# Altium footprint library Bytetd_Modules.PcbLib: 1 footprints
Each footprint in its own frame and in the unit in brackets; x right, y up, seen from the top. Pads: shape width x height; smd on the part's side, far side on the other; paste and mask are expansions set on the pad; w line width, h text height; cw(c..) or ccw(c..) is an arc to the next point about the centre after c.
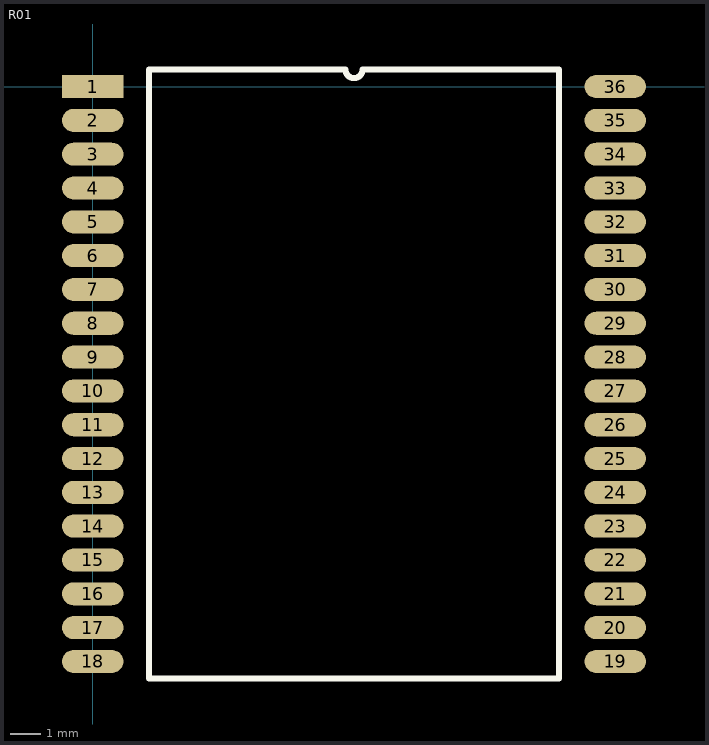
[diagram p0: the footprint, top view; thin cyan lines are the x and y axes]

## R01 [mm]
pads (36):
  rect 2x0.75 smd: 1(0,0)
  oval 2x0.75 smd: 2(0,-1.1) 3(0,-2.2) 4(0,-3.3) 5(0,-4.4) 6(0,-5.5) 7(0,-6.6) 8(0,-7.7) 9(0,-8.8) 10(0,-9.9) 11(0,-11) 12(0,-12.1) 13(0,-13.2) 14(0,-14.3) 15(0,-15.4) 16(0,-16.5) 17(0,-17.6) 18(0,-18.7) 19(17,-18.7) 20(17,-17.6) 21(17,-16.5) 22(17,-15.4) 23(17,-14.3) 24(17,-13.2) 25(17,-12.1) 26(17,-11) 27(17,-9.9) 28(17,-8.8) 29(17,-7.7) 30(17,-6.6) 31(17,-5.5) 32(17,-4.4) 33(17,-3.3) 34(17,-2.2) 35(17,-1.1) 36(17,0)
Top Overlay:
  lines w0.2: 1.835,-19.25 1.835,0.55 8.225,0.55 ccw(c8.5,0.55) 8.775,0.55 15.165,0.55 15.165,-19.25 1.835,-19.25